# Altium schematic symbol library band.SchLib: 5 symbols
Pins are listed as number, name and electrical type; pins without a type are passive.

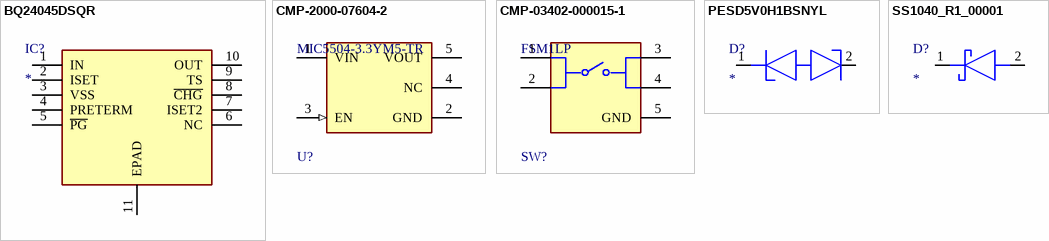
[diagram p0: symbols BQ24045DSQR to SS1040_R1_00001]

## BQ24045DSQR
designator IC?
Integrated Circuit; Manufacturer_Name: Texas Instruments; Manufacturer_Part_Number: BQ24045DSQR; Description: Li-Ion Battery Charger for Single Cell Applications with 4.35V; Datasheet Link: http://www.ti.com/lit/gpn/bq24045; Height: 0.8mm; Mouser2 Part Number: 595-BQ24045DSQR; Mouser2 Price/Stock: https://www.mouser.com/Search/Refine.aspx?Keyword=595-BQ24045DSQR
footprint SON40P200X200X80-11N
pins: 1 IN, 2 ISET, 3 VSS, 4 PRETERM, 5 ~{PG}, 6 NC, 7 ISET2, 8 ~{CHG}, 9 TS, 10 OUT, 11 EPAD

## CMP-2000-07604-2
designator U?, comment MIC5504-3.3YM5-TR
IC REG LINEAR 3.3V 300MA SOT23-5; Quiescent Current: 38uA; Operating Supply Current: 42uA; Max Input Voltage: 5.5V; Min Input Voltage: 2.5V; Output Type: Fixed; Power Supply Rejection Ratio (PSRR): 60dB; Dropout Voltage: 380mV; Accuracy: 3%; Number of Outputs: 1; Nominal Output Voltage: 3.3V; Max Output Current: 300mA; Length: 2.9mm; Mount: Surface Mount; Width: 1.6mm; Packaging: Tape and Reel; Output Current: 300mA; Min Operating Temperature: -40°C; Max Operating Temperature: 125°C; Height: 1.1mm; Case/Package: SOT-23-5; REACH SVHC: No SVHC; Number of Pins: 5; Output Voltage: 3.3V
footprint FP-SOT23-5LD-PL-1-MFG
footprint FP-SOT23-5LD-PL-1-IPC_B
footprint FP-SOT23-5LD-PL-1-IPC_C
footprint FP-SOT23-5LD-PL-1-IPC_A
pins: 1 VIN (power), 2 GND (power), 3 EN (in), 4 NC, 5 VOUT (power)

## CMP-03402-000015-1
designator SW?, comment FSM1LP
SWITCH TACTILE SPST-NO 0.05A 24V; Electrical Life: 100000Cycles; Actuator Type: Standard; Contact Resistance: 100mR; Current Rating: 50mA; Operating Force: 1.57N; Actuator Material: Polyphthalamide; Illumination Type: Non-Illuminated; Actuator Length: 0.01inch; Voltage Rating (DC): 12V; Throw Configuration: SPST; Switch Travel: 0.25mm; Switch Function: Off-Mom; Actuator Color: Black; Length: 6.19mm; Min Operating Temperature: -35°C; Contact Material: Copper Alloy; Max Current Rating: 50mA; Max Operating Temperature: 85°C; Packaging: Loose Piece; Lead Free: Lead Free; Mount: Surface Mount; RoHS Compliant: Yes; Orientation: Straight; Package Quantity: 2000; Mechanical Life: 100000Cycles; Type: Switch; ELV: Compliant; Depth: 8mm; Contact Plating: Silver; Max Voltage Rating (DC): 12V; REACH SVHC: No SVHC; Series: FSM1LP; Contact Current Rating: 50mA; Termination: Gull Wing
footprint FP-FSM1LP-MFG
pins: 1, 2, 3, 4, 5 GND (power)

## PESD5V0H1BSNYL
designator D?
Diode ESD (Bi-directional); Manufacturer_Name: Nexperia; Manufacturer_Part_Number: PESD5V0H1BSNYL; Datasheet Link: https://assets.nexperia.com/documents/data-sheet/PESD5V0H1BSN.pdf; Height: 0.14mm
footprint PESD5V5V1BCSNYL
pins: 1 K1, 2 K2

## SS1040_R1_00001
designator D?
Schottky Diode; Manufacturer_Name: PANJIT; Manufacturer_Part_Number: SS1040_R1_00001; Height: 1.35mm
footprint SS1040_R1_00001
pins: 1 K, 2 A